# EAGLE library part SMALL_MAVRIC_NRF51822 (library small_mavric)
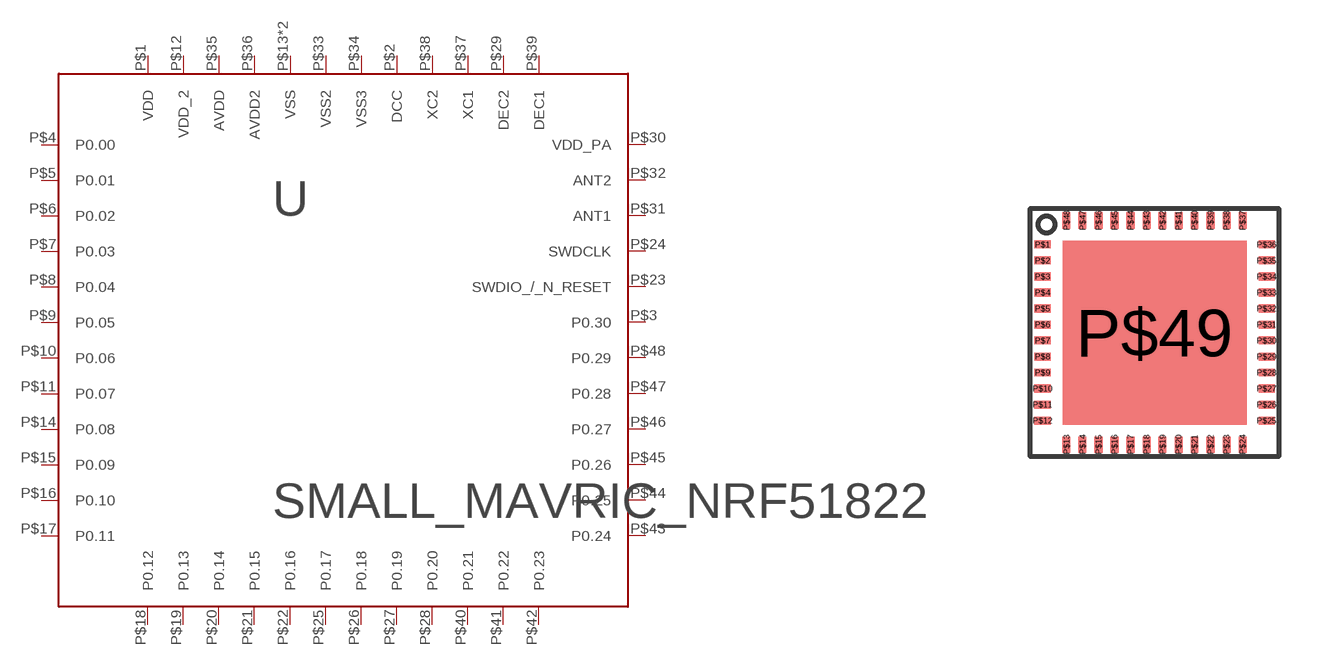
[diagram p2: symbol with the pads of SMALL_MAVRIC_QFN48; footprint SMALL_MAVRIC_QFN48]

Designator prefix -

## SMALL_MAVRIC_NRF51822 (DISTRIBUTOR: mouser; ORDER_CODE: 949-NRF51822-QFAA-R7; PLACE_PART: YES)  [SMALL_MAVRIC_QFN48]
P$1  VDD
P$2  DCC
P$3  P0.30
P$4  P0.00
P$5  P0.01
P$6  P0.02
P$7  P0.03
P$8  P0.04
P$9  P0.05
P$10  P0.06
P$11  P0.07
P$12  VDD_2
P$13  VSS
P$14  P0.08
P$15  P0.09
P$16  P0.10
P$17  P0.11
P$18  P0.12
P$19  P0.13
P$20  P0.14
P$21  P0.15
P$22  P0.16
P$23  SWDIO_/_N_RESET
P$24  SWDCLK
P$25  P0.17
P$26  P0.18
P$27  P0.19
P$28  P0.20
P$29  DEC2
P$30  VDD_PA
P$31  ANT1
P$32  ANT2
P$33  VSS2
P$34  VSS3
P$35  AVDD
P$36  AVDD2
P$37  XC1
P$38  XC2
P$39  DEC1
P$40  P0.21
P$41  P0.22
P$42  P0.23
P$43  P0.24
P$44  P0.25
P$45  P0.26
P$46  P0.27
P$47  P0.28
P$48  P0.29
P$49  VSS

## Footprint SMALL_MAVRIC_QFN48 (pad centres in mm)
smd 0.4 x 0.2: P$1 -2.8,2.2; P$2 -2.8,1.8; P$3 -2.8,1.4; P$4 -2.8,1; P$5 -2.8,0.6; P$6 -2.8,0.2; P$7 -2.8,-0.2; P$8 -2.8,-0.6; P$9 -2.8,-1; P$10 -2.8,-1.4; P$11 -2.8,-1.8; P$12 -2.8,-2.2; P$25 2.8,-2.2; P$26 2.8,-1.8; P$27 2.8,-1.4; P$28 2.8,-1; P$29 2.8,-0.6; P$30 2.8,-0.2; P$31 2.8,0.2; P$32 2.8,0.6; P$33 2.8,1; P$34 2.8,1.4; P$35 2.8,1.8; P$36 2.8,2.2
smd 0.2 x 0.4: P$13 -2.2,-2.8; P$14 -1.8,-2.8; P$15 -1.4,-2.8; P$16 -1,-2.8; P$17 -0.6,-2.8; P$18 -0.2,-2.8; P$19 0.2,-2.8; P$20 0.6,-2.8; P$21 1,-2.8; P$22 1.4,-2.8; P$23 1.8,-2.8; P$24 2.2,-2.8; P$37 2.2,2.8; P$38 1.8,2.8; P$39 1.4,2.8; P$40 1,2.8; P$41 0.6,2.8; P$42 0.2,2.8; P$43 -0.2,2.8; P$44 -0.6,2.8; P$45 -1,2.8; P$46 -1.4,2.8; P$47 -1.8,2.8; P$48 -2.2,2.8
smd 4.6 x 4.6: P$49 0,0